# Altium footprint library CAP_470uF_POL_SMD.PcbLib: 1 footprints
Each footprint in its own frame and in the unit in brackets; x right, y up, seen from the top. Pads: shape width x height; smd on the part's side, far side on the other; paste and mask are expansions set on the pad; w line width, h text height; cw(c..) or ccw(c..) is an arc to the next point about the centre after c.
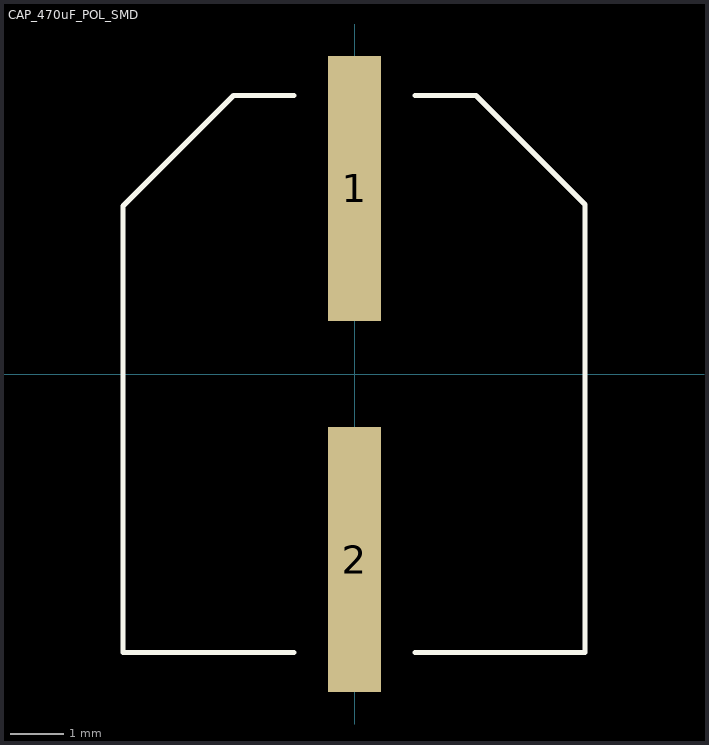
[diagram p0: the footprint, top view; thin cyan lines are the x and y axes]

## CAP_470uF_POL_SMD [mm]
pads (2):
  rect 1x5 smd: 1(0,3.5) 2(0,-3.5)
Top Overlay:
  lines w0.1: -1.143,-5.25 -4.369,-5.25 -4.369,3.167 -2.286,5.25 -1.143,5.25 ; 1.143,-5.25 4.343,-5.25 4.343,3.193 2.286,5.25 1.143,5.25
Mechanical 1:
  text ".designator" at -1.513,-0.254 h0.64
3D body "CAP_470uF_POL_SMD.STEP": height 10.69, standoff 0.32, extent -4.15,-4.523 4.15,4.777